# EAGLE library part LAN9710A (library ICs)
Small Footprint MII/RMII 10/100 Ethernet TransceiveR with HP Auto-MDIX and flexPWR® Technology
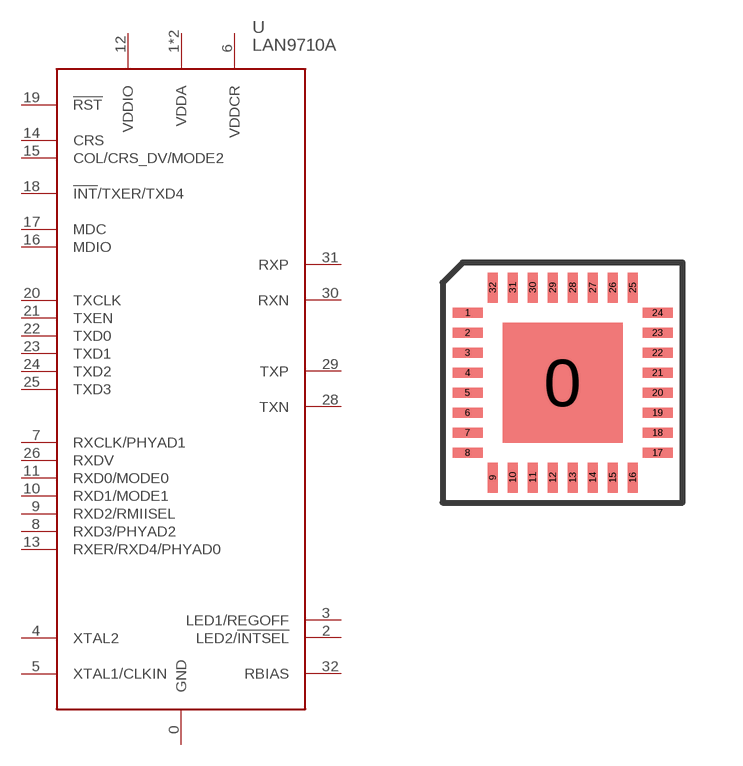
[diagram p218: symbol with the pads of QFN32; footprint QFN32]

Designator prefix U

## LAN9710A (DIGIKEY: LAN8710A-EZC-CT-ND; HEIGHT: 1; PRICE_PER: 0.97; VALUE: LAN8710A)  [QFN32]
0  GND
1  VDDA
2  LED2/!INTSEL
3  LED1/REGOFF
4  XTAL2
5  XTAL1/CLKIN
6  VDDCR
7  RXCLK/PHYAD1
8  RXD3/PHYAD2
9  RXD2/RMIISEL
10  RXD1/MODE1
11  RXD0/MODE0
12  VDDIO
13  RXER/RXD4/PHYAD0
14  CRS
15  COL/CRS_DV/MODE2
16  MDIO
17  MDC
18  !INT!/TXER/TXD4
19  !RST
20  TXCLK
21  TXEN
22  TXD0
23  TXD1
24  TXD2
25  TXD3
26  RXDV
27  VDDA
28  TXN
29  TXP
30  RXN
31  RXP
32  RBIAS

## Footprint QFN32 (pad centres in mm)
smd 3 x 3: 0 0,0
smd 0.75 x 0.25: 1 -2.375,1.75; 2 -2.375,1.25; 3 -2.375,0.75; 4 -2.375,0.25; 5 -2.375,-0.25; 6 -2.375,-0.75; 7 -2.375,-1.25; 8 -2.375,-1.75; 17 2.375,-1.75; 18 2.375,-1.25; 19 2.375,-0.75; 20 2.375,-0.25; 21 2.375,0.25; 22 2.375,0.75; 23 2.375,1.25; 24 2.375,1.75
smd 0.25 x 0.75: 9 -1.75,-2.375; 10 -1.25,-2.375; 11 -0.75,-2.375; 12 -0.25,-2.375; 13 0.25,-2.375; 14 0.75,-2.375; 15 1.25,-2.375; 16 1.75,-2.375; 25 1.75,2.375; 26 1.25,2.375; 27 0.75,2.375; 28 0.25,2.375; 29 -0.25,2.375; 30 -0.75,2.375; 31 -1.25,2.375; 32 -1.75,2.375